# Altium footprint library 保险丝封装库.PcbLib: 13 footprints
Each footprint in its own frame and in the unit in brackets; x right, y up, seen from the top. Pads: shape width x height; smd on the part's side, far side on the other; paste and mask are expansions set on the pad; w line width, h text height; cw(c..) or ccw(c..) is an arc to the next point about the centre after c.
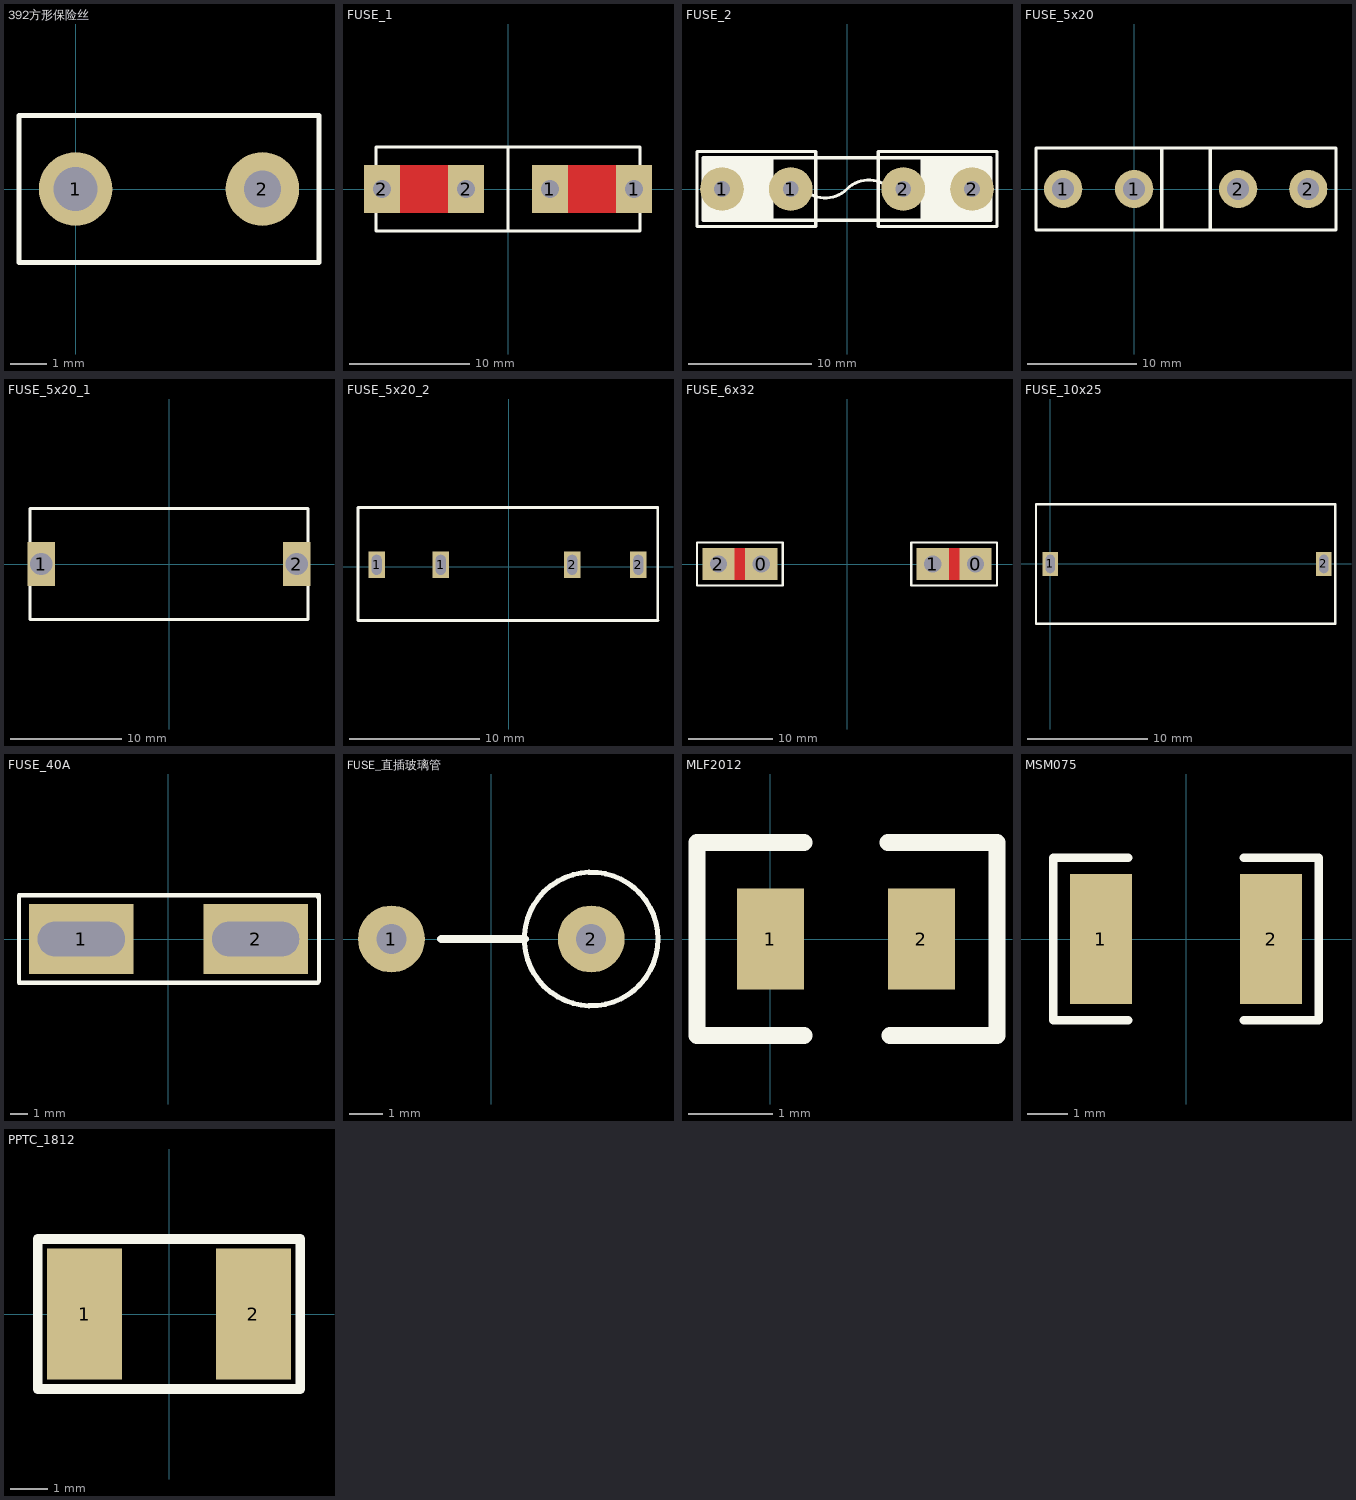
[diagram p0: the footprints below, top view; thin cyan lines are the x and y axes]

## 392方形保险丝 [mm]
height 8
pads (2):
  round 2 hole 1.2: 1(0,0)
  round 2 hole 1: 2(5.08,0)
Top Overlay:
  lines w0.127: -1.54,-1.5 -1.54,-0.015 ; -1.54,-2 6.62,-2 6.62,2 -1.54,2 -1.54,-2

## FUSE_1 [mil]
pads (4):
  rect 118x157 hole 59: 1(137.5,0) 1(413.5,0) 2(-413.5,0) 2(-137.5,0)
Top Layer:
  rectangle: -373.5,-79 -177.5,79
  rectangle: 177.5,-79 374.5,79
Bottom Layer:
  rectangle: 177.5,-79 374.5,79
  rectangle: -373.5,-79 -177.5,79
Top Overlay:
  lines w10: 0.5,-138 0.5,138 ; -432.5,-138 433.5,-138 433.5,138 -432.5,138 -432.5,-138

## FUSE_2 [mil]
pads (4):
  round 140 hole 50: 1(-400,0) 1(-180,0) 2(180,0) 2(400,0)
Top Overlay:
  rectangle: 240,-100 460,100
  rectangle: -460,-100 -240,100
  lines w10: -240,-100 -240,100 ; -140,0 ccw(c-70,70) 0,0 cw(c70,-70) 140,0 ; 240,-100 240,100 ; -480,-120 -100,-120 -100,120 -480,120 -480,0 -480,-120 ; -460,-100 -460,100 440,100 460,100 460,-100 -460,-100 ; 100,-120 480,-120 480,120 100,120 100,-120

## FUSE_5x20 [mil]
pads (4):
  round 138 hole 79: 1(-256,0) 1(0,0) 2(375,0) 2(628,0)
Top Overlay:
  lines w12: 99,-148 99,148 ; 274,-148 274,148 ; -354,-148 728,-148 728,148 -354,148 -354,-148
3D body: height 374.02, standoff -155.51, extent -215.67,-115 575.67,117.58

## FUSE_5x20_1 [mm]
pads (2):
  rect 2.5x4 hole 2: 1(-11.5,0) 2(11.5,0)
Top Overlay:
  lines w0.254: -12.5,-5 12.5,-5 12.5,5 -12.5,5 -12.5,-5
3D body: height 11.52, standoff -1.85, extent -12.152,-4.772 12.248,4.628
3D body: height 10.5, standoff 5.5, extent -9.902,-2.638 10.098,2.362

## FUSE_5x20_2 [mil] "5X20"
pads (4):
  rect 50x80 hole 30 slot 60 at 90 deg: 1(-399.61,5.91) 1(-205.91,5.91) 2(191.34,5.91) 2(391.34,5.91)
Top Overlay:
  lines w7.87: -455.91,-162.2 -455.91,179.13 449.61,179.13 449.61,-161.02 450.79,-162.2 -455.91,-162.2
3D body: height 393.29, standoff -137.8, extent -416.54,-130.31 402.36,145.28

## FUSE_6x32 [mil]
pads (4):
  rect 150x150 hole 80: 0(-400,0) 0(600,0) 1(400,0) 2(-600,0)
Top Layer:
  rectangle: 450,-75 550,75
  rectangle: -550,-75 -450,75
Bottom Layer:
  rectangle: 450,-75 550,75
  rectangle: -550,-75 -450,75
Top Overlay:
  lines w10: -700,-100 -700,100 -300,100 -300,-100 -700,-100 ; 300,-100 300,100 700,100 700,-100 300,-100
3D body: height 430.55, standoff -137.2, extent -611.32,-151.63 -390.69,151.63
3D body: height 430.55, standoff -137.2, extent 389.69,-153 610.31,150.26
3D body: height 440.96, standoff 188.96, extent -625,-130 625,122

## FUSE_10x25 [mil] "body:25x10mm,pin 23mm"
pads (2):
  rect 50x80 hole 30 slot 60 at 90 deg: 1(0,0) 2(899.61,0)
Top Overlay:
  lines w7.87: -46.85,-196.46 -46.85,196.06 937.01,196.06 937.01,-196.46 -46.85,-196.46
3D body: height 393.29, standoff -137.8, extent 41.34,-150.79 860.24,124.8

## FUSE_40A [mm]
pads (2):
  rect 6x4 hole 2 slot 5 at 0 deg: 1(-5,0) 2(5,0)
Top Overlay:
  lines w0.254: -8.581,2.5 8.64,2.5 ; -8.531,2.5 -8.581,2.449 -8.581,-2.5 8.564,-2.5 ; 8.564,2.424 8.64,2.5 ; 8.64,-2.424 8.64,2.5
3D body: height 14, standoff -4.74, extent -9.475,-2.765 9.525,2.235

## FUSE_直插玻璃管 [mil]
pads (2):
  round 79 hole 35.43: 1(-118.11,0) 2(118.11,0)
Top Overlay:
  circle w6: c118.11,0 r79
  lines w10: -59.06,0 39.37,0
3D body: height 545.04, standoff -77.66, extent -130.91,-74.21 195.79,83.27

## MLF2012 [mm]
pads (2):
  rect 0.8x1.2 smd: 1(0,0) 2(1.8,0)
Top Overlay:
  lines w0.203: 0.4,-1.15 -0.875,-1.15 -0.875,1.15 0.4,1.15 ; 1.4,1.15 2.7,1.15 2.7,-1.15 1.425,-1.15

## MSM075 [mm]
pads (2):
  rect 1.524x3.2 smd: 1(-2.1,0) 2(2.1,0)
Top Overlay:
  lines w0.203: -1.422,-2.007 -3.277,-2.007 -3.277,2.007 -1.422,2.007 ; 1.422,-2.007 3.277,-2.007 3.277,2.007 1.422,2.007

## PPTC_1812 [mm]
height 1
pads (2):
  rect 2x3.5 smd: 1(-2.25,0) 2(2.25,0)
Top Overlay:
  lines w0.254: -3.5,-2 3.5,-2 3.5,2 -3.5,2 -3.5,-2
3D body: height 1.32, standoff 0, extent -2.41,-1.61 2.41,1.61